# Altium schematic symbol library CAP,Omit,1210.Schlib: 1 symbol
Pins are listed as number, name and electrical type; pins without a type are passive.

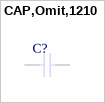
[diagram p0: symbol CAP,Omit,1210]

## CAP,Omit,1210
designator C?  (no BOM)
pins: 1, 2